# Altium footprint library 693071020811.PcbLib: 1 footprints
Each footprint in its own frame and in the unit in brackets; x right, y up, seen from the top. Pads: shape width x height; smd on the part's side, far side on the other; paste and mask are expansions set on the pad; w line width, h text height; cw(c..) or ccw(c..) is an arc to the next point about the centre after c.
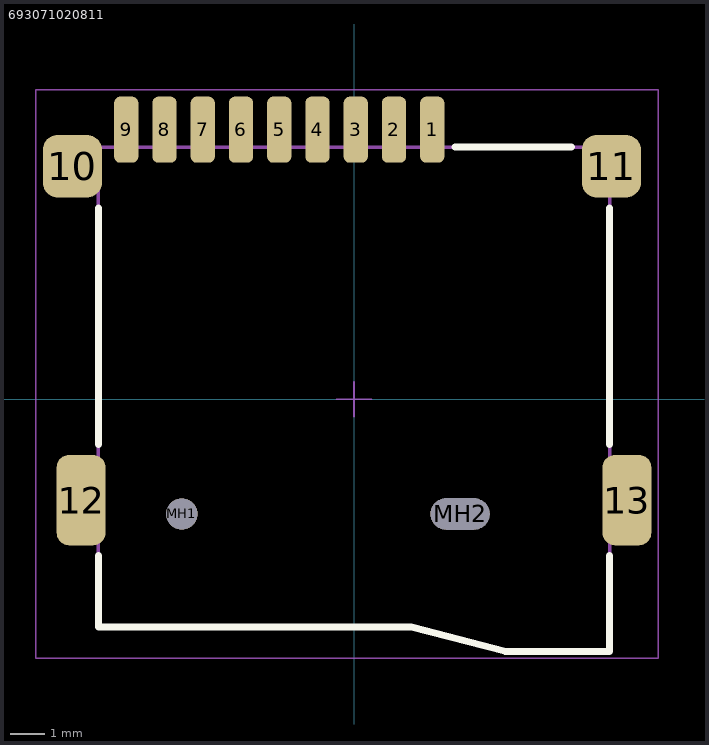
[diagram p0: the footprint, top view; thin cyan lines are the x and y axes]

## 693071020811 [mm] "Micro SD Card Connector Push & Push - with Card Detection - 8 Pins"
height 1.85
pads (15):
  rrect50% 0.7x1.9 smd mask+0.05: 1(2.25,7.75) 2(1.15,7.75) 3(0.05,7.75) 4(-1.05,7.75) 5(-2.15,7.75) 6(-3.25,7.75) 7(-4.35,7.75) 8(-5.45,7.75) 9(-6.55,7.75)
  rrect50% 1.7x1.8 smd: 10(-8.1,6.7) 11(7.4,6.7)
  rrect50% 1.4x2.6 smd: 12(-7.85,-2.9) 13(7.85,-2.9)
  round 0.9 hole 0.9 unplated: MH1(-4.95,-3.3)
  oval 1.7x0.9 hole 0.9 slot 1.7 at 0 deg unplated: MH2(3.05,-3.3)
Top Overlay:
  lines w0.2: -7.35,-4.5 -7.35,-6.55 1.65,-6.55 4.35,-7.248 ; -7.35,-1.3 -7.35,5.5 ; 2.9,7.25 6.25,7.25 ; 4.35,-7.25 7.35,-7.25 7.35,-4.5 ; 7.35,-1.3 7.35,5.5
Top Assembly:
  lines w0.1: 4.35,-7.25 7.35,-7.25 7.35,7.25 -7.35,7.25 -7.35,-6.55 1.65,-6.55 4.35,-7.248
Top Courtyard:
  lines w0.05: -0.5,0 0.5,0 ; 0,-0.5 0,0.5 ; -9.15,-7.45 8.75,-7.45 8.75,8.9 -9.15,8.9 -9.15,-7.45
3D body "693071020811.stp": height 1.85, standoff -0.63, extent -8.2,-7.3 8.2,7.726